# Altium footprint library VFBGA-48.PcbLib: 1 footprints
Each footprint in its own frame and in the unit in brackets; x right, y up, seen from the top. Pads: shape width x height; smd on the part's side, far side on the other; paste and mask are expansions set on the pad; w line width, h text height; cw(c..) or ccw(c..) is an arc to the next point about the centre after c.
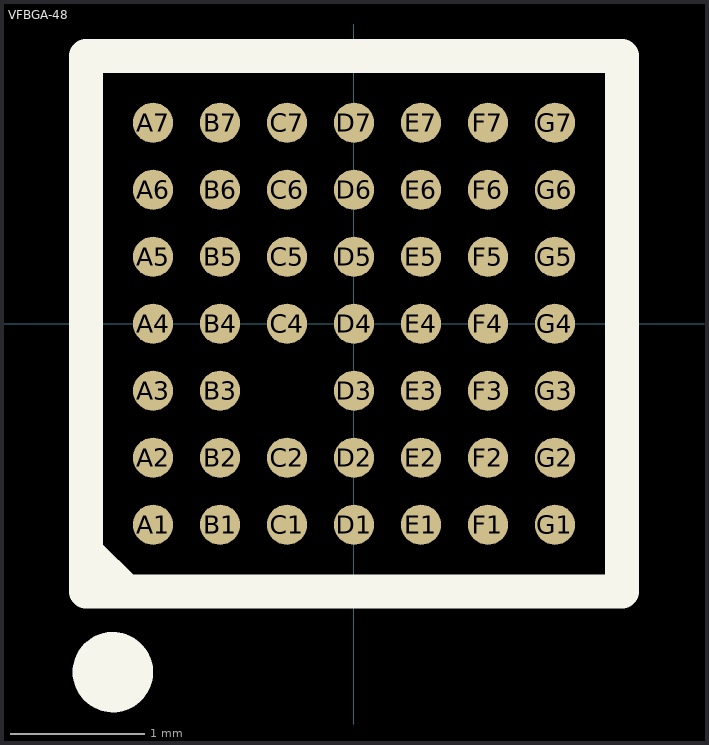
[diagram p0: the footprint, top view; thin cyan lines are the x and y axes]

## VFBGA-48 [mm]
pads (48):
  round 0.3 smd mask+0.051: A1(-1.5,-1.5) A2(-1.5,-1) A3(-1.5,-0.5) A4(-1.5,0) A5(-1.5,0.5) A6(-1.5,1) A7(-1.5,1.5) B1(-1,-1.5) B2(-1,-1) B3(-1,-0.5) B4(-1,0) B5(-1,0.5) B6(-1,1) B7(-1,1.5) C1(-0.5,-1.5) C2(-0.5,-1) C4(-0.5,0) C5(-0.5,0.5) C6(-0.5,1) C7(-0.5,1.5) D1(0,-1.5) D2(0,-1) D3(0,-0.5) D4(0,0) D5(0,0.5) D6(0,1) D7(0,1.5) E1(0.5,-1.5) E2(0.5,-1) E3(0.5,-0.5) E4(0.5,0) E5(0.5,0.5) E6(0.5,1) E7(0.5,1.5) F1(1,-1.5) F2(1,-1) F3(1,-0.5) F4(1,0) F5(1,0.5) F6(1,1) F7(1,1.5) G1(1.5,-1.5) G2(1.5,-1) G3(1.5,-0.5) G4(1.5,0) G5(1.5,0.5) G6(1.5,1) G7(1.5,1.5)
Top Overlay:
  circle w0.3: c-1.8,-2.6 r0.15
  lines w0.254: -2,-1.7 -1.7,-2 ; -2,-2 2,-2 2,2 -2,2 -2,-2